# EAGLE library part 53375-0610 (library Hooman)
Mini-Lock Header 6 pin 53375 series
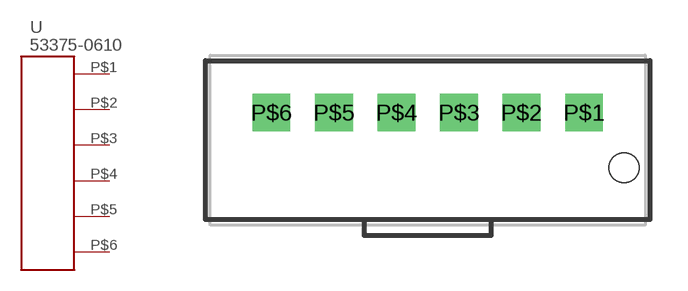
[diagram p0: symbol with the pads of 53375-0610-MINI-LOCK; footprint 53375-0610-MINI-LOCK]

Designator prefix -

## 53375-0610  [53375-0610-MINI-LOCK]
P$1  P$1
P$2  P$2
P$3  P$3
P$4  P$4
P$5  P$5
P$6  P$6

## Footprint 53375-0610-MINI-LOCK (pad centres in mm)
Mini-Lock Header 6 pin 53375-0610
drill 1 square: P$1 6.25,1.1; P$2 3.75,1.1; P$3 1.25,1.1; P$4 -1.25,1.1; P$5 -3.75,1.1; P$6 -6.25,1.1
hole 1.2 at 7.85,-1.1